# EAGLE library part PCF8575 (library interfaces)
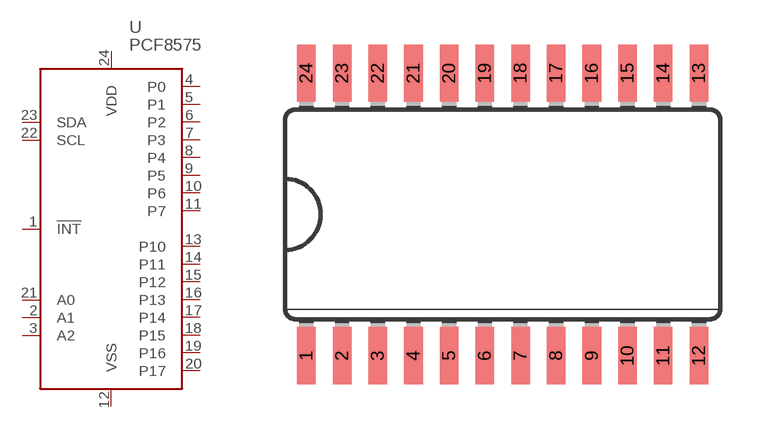
[diagram p2: symbol with the pads of SOIC24W; footprint SOIC24W]

Designator prefix -

## PCF8575  [SOIC24W]
1  !INT
2  A1
3  A2
4  P0
5  P1
6  P2
7  P3
8  P4
9  P5
10  P6
11  P7
12  VSS
13  P10
14  P11
15  P12
16  P13
17  P14
18  P15
19  P16
20  P17
21  A0
22  SCL
23  SDA
24  VDD

## Footprint SOIC24W (pad centres in mm)
Small Outline Package 24 wide
smd 0.66 x 2.032: 1 -6.985,-5.029; 2 -5.715,-5.029; 3 -4.445,-5.029; 4 -3.175,-5.029; 5 -1.905,-5.029; 6 -0.635,-5.029; 7 0.635,-5.029; 8 1.905,-5.029; 9 3.175,-5.029; 10 4.445,-5.029; 11 5.715,-5.029; 12 6.985,-5.029; 13 6.985,5.029; 14 5.715,5.029; 15 4.445,5.029; 16 3.175,5.029; 17 1.905,5.029; 18 0.635,5.029; 19 -0.635,5.029; 20 -1.905,5.029; 21 -3.175,5.029; 22 -4.445,5.029; 23 -5.715,5.029; 24 -6.985,5.029